# Altium integrated library Inductor.IntLib: 2 symbols
Pins are listed as number, name and electrical type; pins without a type are passive.

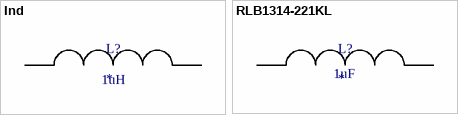
[diagram p0: symbols Ind to RLB1314-221KL]

## Ind
designator L?  value 1uH
footprint SDR1307 (Precision Wire Wound Inductor, 2-Leads, Body 13,00x13,00mm, IPC Medium Density)
footprint SDR0805 (Precision Wire Wound Inductor, 2-Leads, Body 7,80x7,80mm, IPC Medium Density)
footprint 0805 (Chip Resistor, 2-Leads, Body 2,00x1,20mm, IPC Medium Density)
footprint SDR0805 (Precision Wire Wound Inductor, 2-Leads, Body 7,80x7,80mm, IPC Medium Density)
footprint SDR1307 (Precision Wire Wound Inductor, 2-Leads, Body 13,00x13,00mm, IPC Medium Density)
footprint BOURNS_SDR0805
pins: 1, 2

## RLB1314-221KL
designator L?  value 1uF
RLB1314-221KL
footprint RLB1314-221KL
pins: 1, 2